# Altium schematic symbol library DC-Brush-Motor.SCHLIB: 8 symbols
Pins are listed as number, name and electrical type; pins without a type are passive.

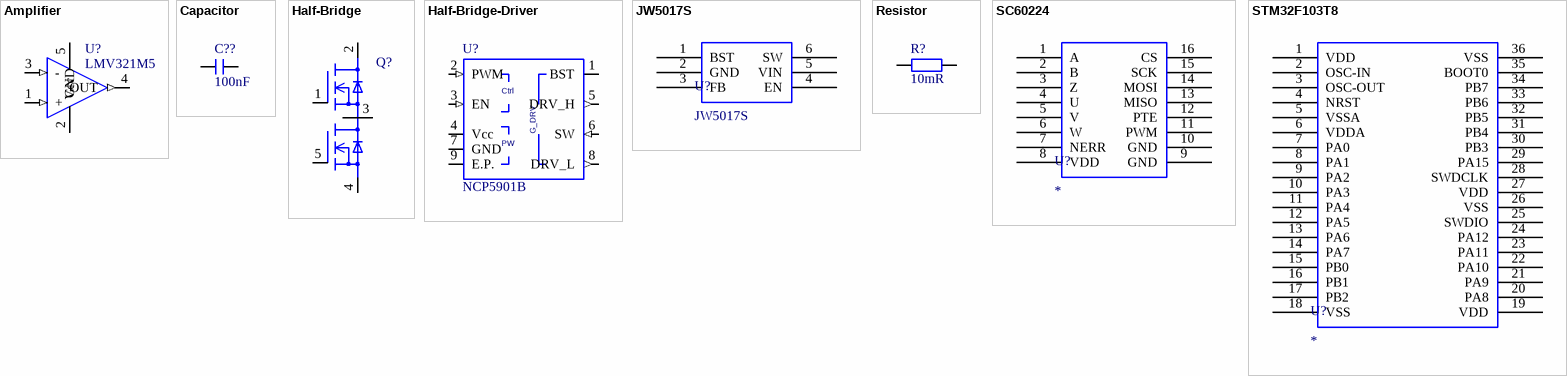
[diagram p0: symbols Amplifier to STM32F103T8]

## Amplifier
designator U?, comment LMV321M5
footprint SOT23_5
footprint SOT353
pins: 1 + (in), 2 GND (power), 3 - (in), 4 OUT (out), 5 Vcc (power)

## Capacitor
designator C??, comment value 100nF  (hidden comment: C)
无极性贴片电容
footprint C 0201 (无极性贴片电容)
footprint C 0402 (无极性贴片电容)
footprint C 0603 (无极性贴片电容)
footprint C 0805 (无极性贴片电容)
footprint C 1206 (无极性贴片电容)
footprint C 1210 (无极性贴片电容)
footprint C 1808 (无极性贴片电容)
footprint C 1812 (无极性贴片电容)
footprint C 1825 (无极性贴片电容)
footprint C 2225 (无极性贴片电容)
pins: 1, 2

## Half-Bridge
designator Q?, comment DMT3009LDT  (value not drawn)
footprint DFN-8 3X3 (TYPE-K)
pins: 1 G1 (io), 2 D1 (io), 3 S1/D2 (io), 3 S1/D2 (io), 4 S2 (io), 5 G2 (io)

## Half-Bridge-Driver
designator U?, comment NCP5901B
footprint DFN-8
pins: 1 BST, 2 PWM (in), 3 EN (in), 4 Vcc (power), 5 DRV_H (out), 6 SW (in), 7 GND (power), 8 DRV_L (out), 9 E.P. (power)
text: Ctrl; G_DRV; PW

## JW5017S
designator U?
pins: 1 BST, 2 GND, 3 FB, 4 EN, 5 VIN, 6 SW

## Resistor
designator R?, comment value 10mR  (hidden comment: R)
贴片电阻
footprint R 0201 (1/20W贴片电阻)
footprint R 0201-HP (1/20W高精度贴片电阻)
footprint R 0402 (1/16W贴片电阻)
footprint R 0402-HP (1/16W高精度贴片电阻)
footprint R 0603 (1/10W贴片电阻)
footprint R 0603-HP (1/10W高精度贴片电阻)
footprint R 0805 (1/8W贴片电阻)
footprint R 0805-HP (1/8W高精度贴片电阻)
footprint R 1206 (1/4W贴片电阻)
footprint R 1206-HP (1/4W高精度贴片电阻)
footprint R 1210 (1/3W贴片电阻)
footprint R 1210-HP (1/3W高精度贴片电阻)
footprint R 1812 (1/2W贴片电阻)
footprint R 1812-HP (1/2W高精度贴片电阻)
footprint R 2010 (3/4W贴片电阻)
footprint R 2010-HP (3/4W高精度贴片电阻)
footprint R 2512 (1W贴片电阻)
footprint R 2512-HP (1W高精度贴片电阻)
pins: 1, 2

## SC60224
designator U?
pins: 1 A, 2 B, 3 Z, 4 U, 5 V, 6 W, 7 NERR, 8 VDD, 9 GND, 10 GND, 11 PWM, 12 PTE, 13 MISO, 14 MOSI, 15 SCK, 16 CS

## STM32F103T8
designator U?
pins: 1 VDD, 2 OSC-IN, 3 OSC-OUT, 4 NRST, 5 VSSA, 6 VDDA, 7 PA0, 8 PA1, 9 PA2, 10 PA3, 11 PA4, 12 PA5, 13 PA6, 14 PA7, 15 PB0, 16 PB1, 17 PB2, 18 VSS, 19 VDD, 20 PA8, 21 PA9, 22 PA10, 23 PA11, 24 PA12, 25 SWDIO, 26 VSS, 27 VDD, 28 SWDCLK, 29 PA15, 30 PB3, 31 PB4, 32 PB5, 33 PB6, 34 PB7, 35 BOOT0, 36 VSS